# Altium footprint library 5-Pcblib_Led.PcbLib: 25 footprints (part 2 of 2)
Each footprint in its own frame and in the unit in brackets; x right, y up, seen from the top. Pads: shape width x height; smd on the part's side, far side on the other; paste and mask are expansions set on the pad; w line width, h text height; cw(c..) or ccw(c..) is an arc to the next point about the centre after c.
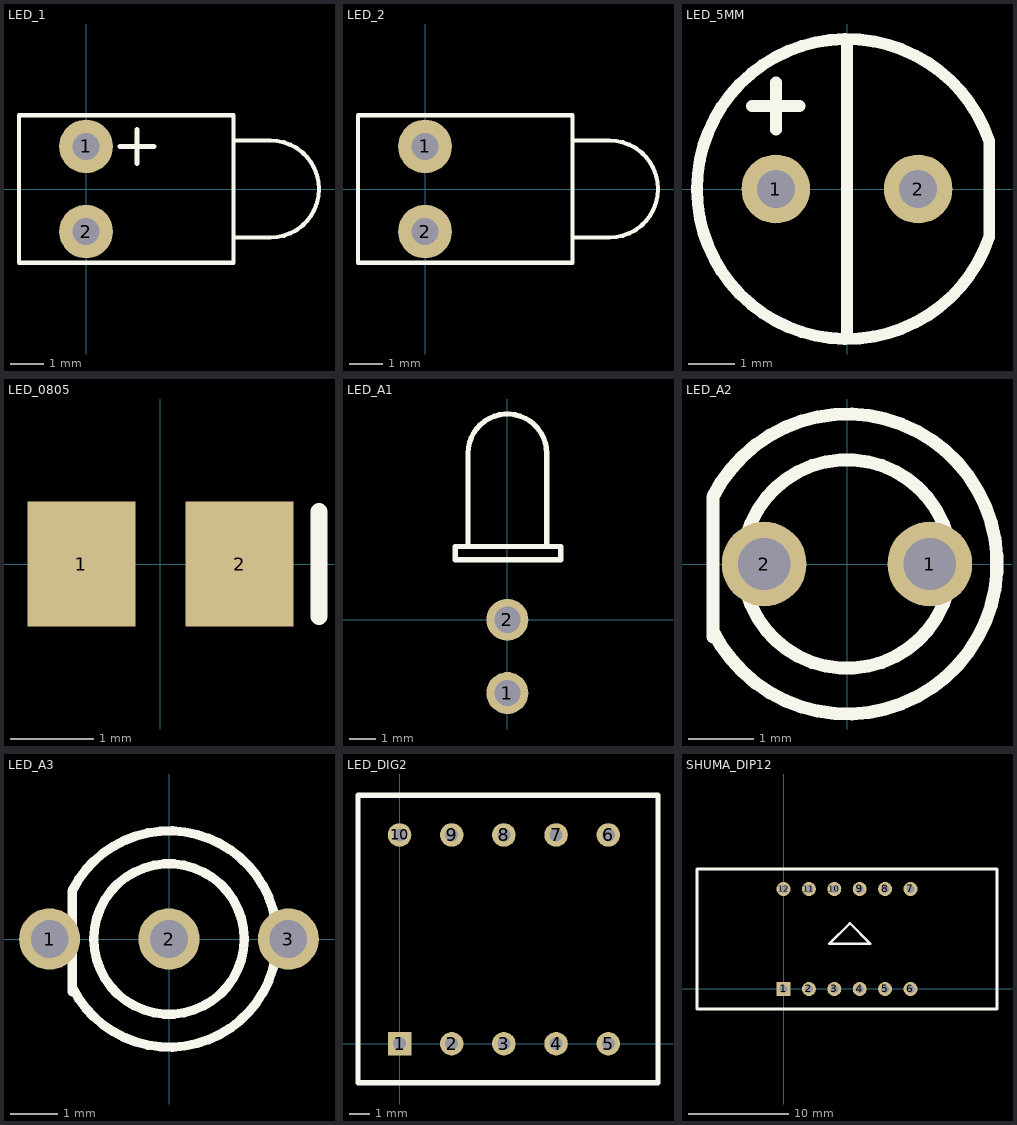
[diagram p1: the footprints below, top view; thin cyan lines are the x and y axes]

## LED_1 [mm] "LED; 2 Leads"
height 1.35
pads (2):
  round 1.6 hole 0.8: 1(0,1.27) 2(0,-1.27)
Top Overlay:
  lines w0.127: 4.4,-1.45 5.5,-1.45 ccw(c5.5,0) 5.5,1.45 4.4,1.45 ; -2,-2.2 4.4,-2.2 4.4,2.2 -2,2.2 -2,-2.2
  lines w0.152: 1.016,1.27 2.032,1.27 ; 1.524,0.762 1.524,1.778

## LED_2 [mm] "LED; 2 Leads"
pads (2):
  round 1.6 hole 0.8: 1(0,1.27) 2(0,-1.27)
Top Overlay:
  lines w0.127: 4.4,-1.45 5.5,-1.45 ccw(c5.5,0) 5.5,1.45 4.4,1.45 ; -2,-2.2 -2,2.2 4.4,2.2 4.4,-2.2 -2,-2.2
3D body: height 4.99, standoff -4, extent -0.374,-1.626 10.076,1.878

## LED_5MM [mil]
pads (2):
  round 58 hole 32: 1(-60,0) 2(60,0)
Top Overlay:
  lines w10: -80,70 -40,70 ; -60,50 -60,90 ; 0,-125 0,0 0,120 ; 120,-40 cw(c0,0) 120,40 120,-40
3D body: height 470.27, standoff -137.8, extent -116.51,-117.41 100.03,118.81

## LED_0805 [mm] "贴片二极管"
height 1.1
pads (2):
  rect 1.3x1.5 smd: 1(-0.95,0) 2(0.95,0)
Top Overlay:
  lines w0.2: 1.905,-0.635 1.905,0.635

## LED_A1 [mm] "直径3MM二极管"
height 3.5
pads (2):
  round 1.6 hole 1: 1(0,-2.794) 2(0,0)
Top Overlay:
  lines w0.2: -1.5,2.852 -1.5,6.35 cw(c0,6.35) 1.5,6.35 1.5,2.852 ; -1.984,2.286 -1.984,2.794 2.032,2.794 2.032,2.286 -1.984,2.286

## LED_A2 [mm] "直径3MM二极管"
height 5.5
pads (2):
  round 1.3 hole 0.8: 1(1.27,0) 2(-1.27,0)
Top Overlay:
  circle w0.2: c0,0 r1.6
  lines w0.2: -2.057,-1.118 -2.057,1.029 cw(c0,0) -2.057,-1.029

## LED_A3 [mm] "直径3MM二极管"
height 5.5
pads (3):
  round 1.3 hole 0.8: 1(-2.54,0) 2(0,0) 3(2.54,0)
Top Overlay:
  circle w0.2: c0,0 r1.6
  lines w0.2: -2.057,-1.118 -2.057,1.029 cw(c0,0) -2.057,-1.029

## LED_DIG2 [mil]
pads (10):
  rect 45x45 hole 25: 1(0,0)
  round 45 hole 25: 2(100,0) 3(200,0) 4(300,0) 5(400,0) 6(400,400) 7(300,400) 8(200,400) 9(100,400) 10(0,400)
Top Overlay:
  lines w10: -79.53,-75 -79.53,476.18 495.28,476.18 495.28,-75 -79.53,-75
3D body: height 322.83, standoff -169.29, extent -104.11,-94.77 506.13,495.78

## SHUMA_DIP12 [mm]
pads (12):
  rect 1.4x1.4 hole 0.8: 1(0,0)
  round 1.4 hole 0.8: 2(2.54,0) 3(5.08,0) 4(7.62,0) 5(10.16,0) 6(12.7,0) 7(12.7,10) 8(10.16,10) 9(7.62,10) 10(5.08,10) 11(2.54,10) 12(0,10)
Top Overlay:
  lines w0.254: -8.65,-2 21.35,-2 21.35,12 -8.65,12 -8.65,-2 ; 4.599,4.545 6.631,6.577 8.663,4.545 4.599,4.545